# EAGLE library part BMI160 (library IMU)
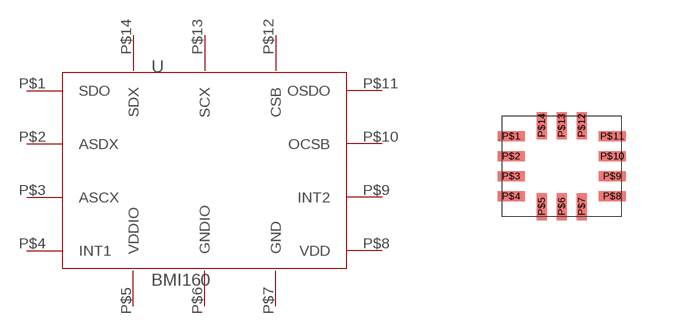
[diagram p0: symbol with the pads of IMU; footprint IMU]

Designator prefix -

## BMI160  [IMU]
P$1  SDO
P$2  ASDX
P$3  ASCX  out
P$4  INT1
P$5  VDDIO  sup
P$6  GNDIO  pwr
P$7  GND  pwr
P$8  VDD  sup
P$9  INT2
P$10  OCSB
P$11  OSDO
P$12  CSB  in
P$13  SCX  in
P$14  SDX

## Footprint IMU (pad centres in mm)
smd 0.675 x 0.25: P$1 -1.262,0.75; P$2 -1.262,0.25; P$3 -1.262,-0.25; P$4 -1.262,-0.75; P$8 1.262,-0.75; P$9 1.262,-0.25; P$10 1.262,0.25; P$11 1.262,0.75
smd 0.25 x 0.675: P$5 -0.5,-1.012; P$6 0,-1.012; P$7 0.5,-1.012; P$12 0.5,1.012; P$13 0,1.012; P$14 -0.5,1.012